# EAGLE library part LM339 (library #PaJa_31)
Komparator - 4x - nizkoprikonovy
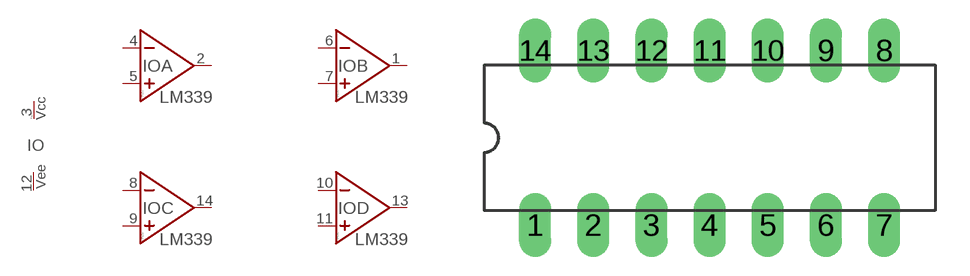
[diagram p35: symbol with the pads of DIL14; footprint DIL14]

Designator prefix IO; gates A=OZ C=OZ B=OZ D=OZ N=POWER_SY

## LM339  [DIL14]
1  B:VYSTUP  out
2  A:VYSTUP  out
3  N:VCC  pwr
4  A:IN-  in
5  A:NEIN+  in
6  B:IN-  in
7  B:NEIN+  in
8  C:IN-  in
9  C:NEIN+  in
10  D:IN-  in
11  D:NEIN+  in
12  N:VEE  pwr
13  D:VYSTUP  out
14  C:VYSTUP  out

## Footprint DIL14 (pad centres in mm)
drill 0.813 pad 1.4 long: 1 -7.62,-3.81; 2 -5.08,-3.81; 3 -2.54,-3.81; 4 0,-3.81; 5 2.54,-3.81; 6 5.08,-3.81; 7 7.62,-3.81; 8 7.62,3.81; 9 5.08,3.81; 10 2.54,3.81; 11 0,3.81; 12 -2.54,3.81; 13 -5.08,3.81; 14 -7.62,3.81